# EAGLE library part MFRC522 (library IC & Transistor)
MFRC522 Standard performance MIFARE and NTAG frontend Created by: Wai Weng
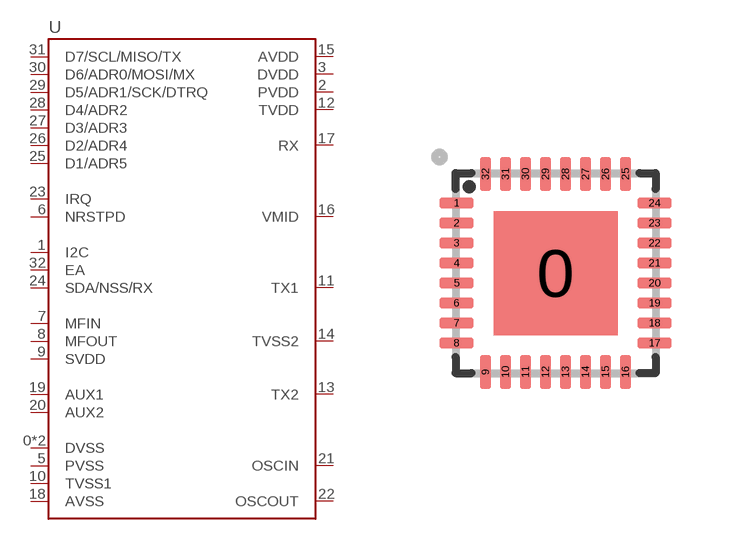
[diagram p61: symbol with the pads of QFN-32; footprint QFN-32]

Designator prefix U

## MFRC522 (DESC: MIFARE & NTAG Frontend; MF: NXP Semiconductors; MPN: MFRC522)  [QFN-32]
0  DVSS
1  I2C
2  PVDD
3  DVDD
4  DVSS
5  PVSS
6  NRSTPD
7  MFIN
8  MFOUT
9  SVDD
10  TVSS1
11  TX1
12  TVDD
13  TX2
14  TVSS2
15  AVDD
16  VMID
17  RX
18  AVSS
19  AUX1
20  AUX2
21  OSCIN
22  OSCOUT
23  IRQ
24  SDA/NSS/RX
25  D1/ADR5
26  D2/ADR4
27  D3/ADR3
28  D4/ADR2
29  D5/ADR1/SCK/DTRQ
30  D6/ADR0/MOSI/MX
31  D7/SCL/MISO/TX
32  EA

## Footprint QFN-32 (pad centres in mm)
Quad Flat No-leads Package Size: 5.0mm x 5.0mm Pitch: 0.5mm Created by: Wai Weng
smd 3.1 x 3.1: 0 0,0
smd 0.85 x 0.28: 1 -2.475,1.75; 2 -2.475,1.25; 3 -2.475,0.75; 4 -2.475,0.25; 5 -2.475,-0.25; 6 -2.475,-0.75; 7 -2.475,-1.25; 8 -2.475,-1.75; 17 2.475,-1.75; 18 2.475,-1.25; 19 2.475,-0.75; 20 2.475,-0.25; 21 2.475,0.25; 22 2.475,0.75; 23 2.475,1.25; 24 2.475,1.75
smd 0.28 x 0.85: 9 -1.75,-2.475; 10 -1.25,-2.475; 11 -0.75,-2.475; 12 -0.25,-2.475; 13 0.25,-2.475; 14 0.75,-2.475; 15 1.25,-2.475; 16 1.75,-2.475; 25 1.75,2.475; 26 1.25,2.475; 27 0.75,2.475; 28 0.25,2.475; 29 -0.25,2.475; 30 -0.75,2.475; 31 -1.25,2.475; 32 -1.75,2.475